# EAGLE library part RS232 (library MyLib)
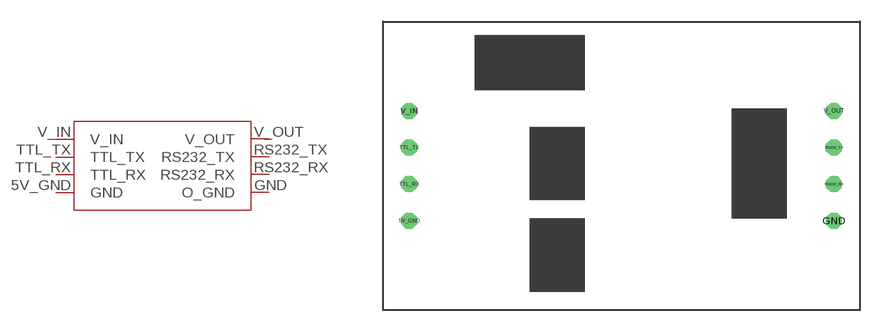
[diagram p1: symbol with the pads of RS232; footprint RS232]

Designator prefix -

## RS232  [RS232]
5V_GND  GND
GND  O_GND
RS232_RX  RS232_RX
RS232_TX  RS232_TX
TTL_RX  TTL_RX
TTL_TX  TTL_TX
V_IN  V_IN
V_OUT  V_OUT

## Footprint RS232 (pad centres in mm)
drill 0.6 octagon: 5V_GND 1.8,6.19; GND 31.21,6.19; RS232_RX 31.21,8.73; RS232_TX 31.21,11.27; TTL_RX 1.8,8.73; TTL_TX 1.8,11.27; V_IN 1.8,13.81; V_OUT 31.21,13.81